# EAGLE library part CP2102N (library Goodies)
The CP2102N devices, part of the USBXpress family, are designed to quickly add USB to your applications by eliminating firmware complexity and reducing development time.
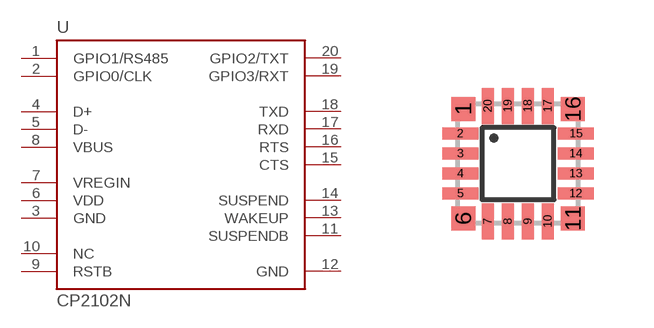
[diagram p8: symbol with the pads of QFN20; footprint QFN20]

Designator prefix U

## CP2102N  [QFN20]
1  GPIO1/RS485
2  GPIO0/CLK
3  GND  pwr
4  D+  in
5  D-  in
6  VDD  pwr
7  VREGIN  pwr
8  VBUS  in
9  RSTB  in
10  NC
11  SUSPENDB  out
12  GND  pwr
13  WAKEUP  in
14  SUSPEND  out
15  CTS  in
16  RTS  out
17  RXD  in
18  TXD  out
19  GPIO3/RXT
20  GPIO2/TXT

## Footprint QFN20 (pad centres in mm)
QFN20 package for CP2102N, with prepared pads for corner to solder with woldering iron UNTESTED
smd 0.6 x 0.6: 1 -1.37,1.37; 6 -1.37,-1.37; 11 1.37,-1.37; 16 1.37,1.37
smd 0.9 x 0.3: 2 -1.445,0.75; 3 -1.445,0.25; 4 -1.445,-0.25; 5 -1.445,-0.75; 12 1.445,-0.75; 13 1.445,-0.25; 14 1.445,0.25; 15 1.45,0.75
smd 0.3 x 0.9: 7 -0.75,-1.445; 8 -0.25,-1.445; 9 0.25,-1.445; 10 0.75,-1.445; 17 0.75,1.445; 18 0.25,1.445; 19 -0.25,1.445; 20 -0.75,1.445